# EAGLE library part DF17(XX)-40DP-0.5V (library hirose)
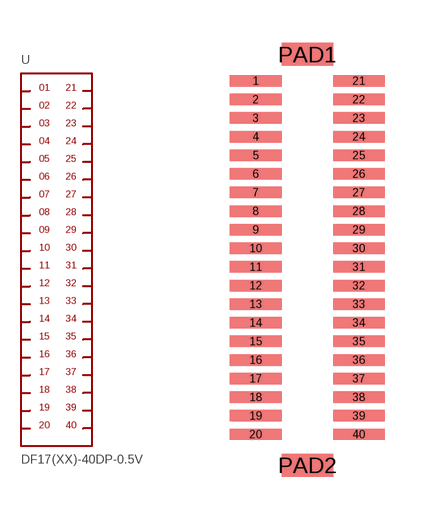
[diagram p0: symbol with the pads of DF17(XX)-40DP-0.5V; footprint DF17(XX)-40DP-0.5V]

Designator prefix -

## DF17(XX)-40DP-0.5V  [DF17(XX)-40DP-0.5V]
1  1
2  2
3  3
4  4
5  5
6  6
7  7
8  8
9  9
10  10
11  11
12  12
13  13
14  14
15  15
16  16
17  17
18  18
19  19
20  20
21  21
22  22
23  23
24  24
25  25
26  26
27  27
28  28
29  29
30  30
31  31
32  32
33  33
34  34
35  35
36  36
37  37
38  38
39  39
40  40

## Footprint DF17(XX)-40DP-0.5V (pad centres in mm)
smd 1.8 x 0.4: 1 -1.8,6.175; 2 -1.8,5.525; 3 -1.8,4.875; 4 -1.8,4.225; 5 -1.8,3.575; 6 -1.8,2.925; 7 -1.8,2.275; 8 -1.8,1.625; 9 -1.8,0.975; 10 -1.8,0.325; 11 -1.8,-0.325; 12 -1.8,-0.975; 13 -1.8,-1.625; 14 -1.8,-2.275; 15 -1.8,-2.925; 16 -1.8,-3.575; 17 -1.8,-4.225; 18 -1.8,-4.875; 19 -1.8,-5.525; 20 -1.8,-6.175; 21 1.8,6.175; 22 1.8,5.525; 23 1.8,4.875; 24 1.8,4.225; 25 1.8,3.575; 26 1.8,2.925; 27 1.8,2.275; 28 1.8,1.625; 29 1.8,0.975; 30 1.8,0.325; 31 1.8,-0.325; 32 1.8,-0.975; 33 1.8,-1.625; 34 1.8,-2.275; 35 1.8,-2.925; 36 1.8,-3.575; 37 1.8,-4.225; 38 1.8,-4.875; 39 1.8,-5.525; 40 1.8,-6.175
smd 1.8 x 0.8: PAD1 0,7.1; PAD2 0,-7.25